# Altium footprint library Switch_Board.PcbLib: 8 footprints
Each footprint in its own frame and in the unit in brackets; x right, y up, seen from the top. Pads: shape width x height; smd on the part's side, far side on the other; paste and mask are expansions set on the pad; w line width, h text height; cw(c..) or ccw(c..) is an arc to the next point about the centre after c.
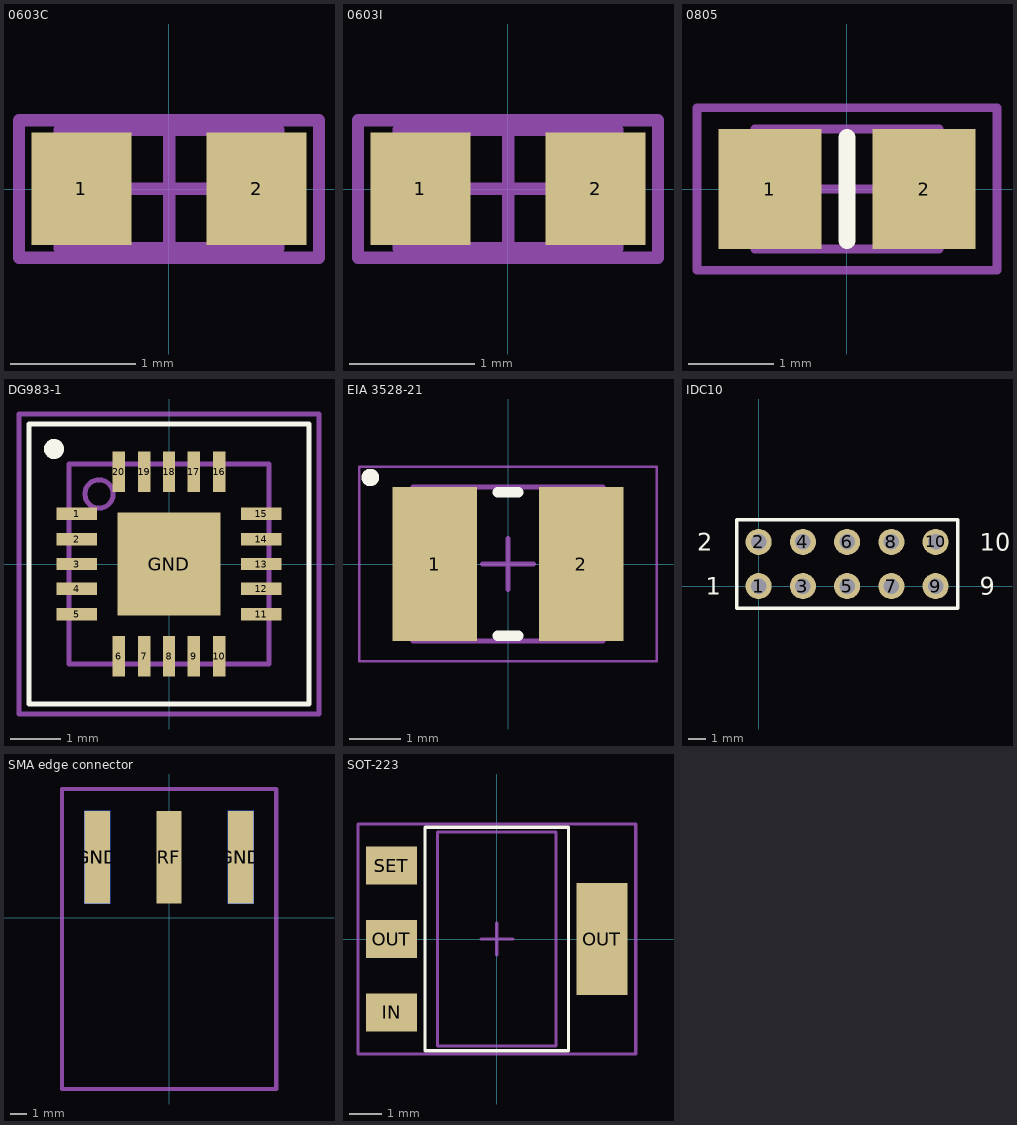
[diagram p0: the footprints below, top view; thin cyan lines are the x and y axes]

## 0603C [mm] "Chip capacitor, body 1.6 mm x 0.8 mm, IPC high density"
height 0.45
pads (2):
  rect 0.8x0.9 smd: 1(-0.7,0) 2(0.7,0)
Mechanical 13:
  lines w0.1: -0.875,-0.475 0.875,-0.475 0.875,0.475 -0.875,0.475 -0.875,-0.475
Mechanical 15:
  lines w0.1: -0.475,0 0.475,0 ; 0,-0.475 0,0.475 ; -1.2,-0.55 1.2,-0.55 1.2,0.55 -1.2,0.55 -1.2,-0.55
3D body: height 0.45, standoff 0, extent 0.508,-0.475 0.875,0.475
3D body: height 0.45, standoff 0, extent -0.508,-0.475 0.508,0.475
3D body: height 0.45, standoff 0, extent -0.875,-0.475 -0.508,0.475

## 0603I [mm] "Chip inductor, body 1.6 mm x 0.8 mm, IPC high density"
height 0.55
pads (2):
  rect 0.8x0.9 smd: 1(-0.7,0) 2(0.7,0)
Mechanical 13:
  lines w0.1: -0.875,-0.475 -0.875,0.475 0.875,0.475 0.875,-0.475 -0.875,-0.475
Mechanical 15:
  lines w0.1: -0.475,0 0.475,0 ; 0,-0.475 0,0.475 ; -1.2,-0.55 -1.2,0.55 1.2,0.55 1.2,-0.55 -1.2,-0.55
3D body: height 0.45, standoff 0, extent -0.875,-0.475 -0.508,0.475
3D body: height 0.45, standoff 0, extent -0.508,-0.475 0.508,0.475
3D body: height 0.45, standoff 0, extent 0.508,-0.475 0.875,0.475

## 0805 [mm] "Chip resistor, body 2.0 mm x 1.2 mm, IPC medium density"
height 0.45
pads (2):
  rect 1.2x1.4 smd: 1(-0.9,0) 2(0.9,0)
Top Overlay:
  lines w0.2: 0,-0.6 0,0.6
Mechanical 13:
  lines w0.1: -1.075,-0.7 1.075,-0.7 1.075,0.7 -1.075,0.7 -1.075,-0.7
Mechanical 15:
  lines w0.1: -0.5,0 0.5,0 ; 0,-0.5 0,0.5 ; -1.75,-0.95 1.75,-0.95 1.75,0.95 -1.75,0.95 -1.75,-0.95
3D body: height 0.45, standoff 0, extent -0.584,-0.7 0.584,0.7
3D body: height 0.45, standoff 0, extent 0.584,-0.7 1.075,0.7
3D body: height 0.45, standoff 0, extent -1.075,-0.7 -0.584,0.7

## DG983-1 [mm] "Mini-Circuits DG983-1 case style"
height 0.9
pads (21):
  rect 0.81x0.25 smd paste+0 mask+0.05: 1(-1.845,1) 2(-1.845,0.5) 3(-1.845,0) 4(-1.845,-0.5) 5(-1.845,-1) 11(1.845,-1) 12(1.845,-0.5) 13(1.845,0) 14(1.845,0.5) 15(1.845,1)
  rect 0.25x0.81 smd paste+0 mask+0.05: 6(-1,-1.845) 7(-0.5,-1.845) 8(0,-1.845) 9(0.5,-1.845) 10(1,-1.845) 16(1,1.845) 17(0.5,1.845) 18(0,1.845) 19(-0.5,1.845) 20(-1,1.845)
  rect 2.06x2.06 smd paste+0 mask+0.05: GND(0,0)
Top Overlay:
  circle w0.2: c-2.3,2.3 r0.1
  lines w0.1: -2.8,-2.8 -2.8,2.8 2.8,2.8 2.8,-2.8 -2.8,-2.8
Mechanical 1:
  circle w0.1: c-1.4,1.4 r0.283
  lines w0.1: -2,-2 -2,2 2,2 2,-2 -2,-2
Mechanical 15:
  lines w0.1: -0.5,0 0.5,0 ; 0,-0.5 0,0.5 ; -3,-3 3,-3 3,3 -3,3 -3,-3
3D body: height 0.9, standoff 0, extent -2,-2 2,2

## EIA 3528-21 [mm] "Chip capacitor, body 3.50 x 2.80mm, IPC medium density"
height 2.1
pads (2):
  rect 1.65x3 smd: 1(-1.425,0) 2(1.425,0)
Top Overlay:
  circle w0.2: c-2.686,1.687 r0.07
  lines w0.2: -0.2,-1.4 0.2,-1.4 ; -0.2,1.4 0.2,1.4
Mechanical 13:
  lines w0.1: -1.85,-1.5 1.85,-1.5 1.85,1.5 -1.85,1.5 -1.85,-1.5
Mechanical 15:
  lines w0.05: -2.9,-1.9 2.9,-1.9 2.9,1.9 -2.9,1.9 -2.9,-1.9
  lines w0.1: -0.5,0 0.5,0 ; 0,-0.5 0,0.5
3D body: height 2.1, standoff 0, extent -1.85,-1.5 -1.05,1.5
3D body: height 2.1, standoff 0, extent -1.05,-1.5 1.85,1.5

## IDC10 [mm] "IDC connector, 10 pin, vertical"
height 9
pads (10):
  round 1.5 hole 0.9: 1(0,0) 2(0,2.54) 3(2.54,0) 4(2.54,2.54) 5(5.08,0) 6(5.08,2.54) 7(7.62,0) 8(7.62,2.54) 9(10.16,0) 10(10.16,2.54)
Top Overlay:
  lines w0.2: -1.27,-1.27 -1.27,3.81 11.43,3.81 11.43,-1.27 -1.27,-1.27
  text "2" at -3.54,2.032 h1
  text "1" at -3.032,-0.508 h1
  text "9" at 12.684,-0.508 h1
  text "10" at 12.684,2.032 h1
3D body: height 9.22, standoff -2.59, extent -5.08,-3.175 15.24,6.045

## SMA edge connector [mm] "SMA 50 ohm PCB edge jack"
pads (5):
  rect 1.524x5.5 smd: GND(-4.252,3.575) GND(4.248,3.575)
  rect 1.524x5.5 smd far side: GND(-4.252,3.575) GND(4.248,3.575)
  rect 1.5x5.5 smd: RF(-0.002,3.575)
Mechanical 15:
  lines w0.254: -6.35,-10.16 6.35,-10.16 6.35,7.62 -6.35,7.62 -6.35,-10.16
3D body: height 3.14, standoff -3.14, extent -3.077,-8.695 3.198,-0.825
3D body: height 3.96, standoff -3.96, extent -5.002,-0.825 4.998,0.825
3D body: height 1.85, standoff 0, extent -4.702,0.825 -3.702,5.525
3D body: height 1.85, standoff 0, extent 3.748,0.825 4.748,5.525
3D body: height 0.76, standoff 0, extent -0.376,0.825 0.381,5.575

## SOT-223 [mm] "SOT-223 footprint"
height 1.8
pads (4):
  rect 1.6x1.2 smd paste+0 mask+0.05: IN(-3.3,-2.3) OUT(-3.3,0) SET(-3.3,2.3)
  rect 1.6x3.5 smd paste+0 mask+0.05: OUT(3.3,0)
Top Overlay:
  lines w0.1: -2.25,-3.5 2.25,-3.5 2.25,3.5 -2.25,3.5 -2.25,-3.5
Mechanical 1:
  lines w0.1: -1.855,-3.355 1.855,-3.355 1.855,3.355 -1.855,3.355 -1.855,-3.355
Mechanical 15:
  lines w0.1: -0.5,0 0.5,0 ; 0,-0.5 0,0.5 ; -4.35,-3.6 4.35,-3.6 4.35,3.6 -4.35,3.6 -4.35,-3.6
3D body: height 1.8, standoff 0.1, extent -1.855,-3.355 1.855,3.355
3D body: height 0.9, standoff 0, extent 1.855,-1.25 3.3,1.25
3D body: height 0.9, standoff 0, extent -3.25,-0.5 -1.855,0.5
3D body: height 0.9, standoff 0, extent -3.3,1.775 -1.855,2.8
3D body: height 0.9, standoff 0, extent -3.3,-2.8 -1.855,-1.8